# EAGLE library part 2020-03-18-BUCK-N5 (library 2021-07-02 OrangeHat Library)
2020-03-18 Buck Module Output 1: 5.8V3.0A SW Output 2:5.2V 3.0A SW Output 3: 5.0V 1.0A LDO
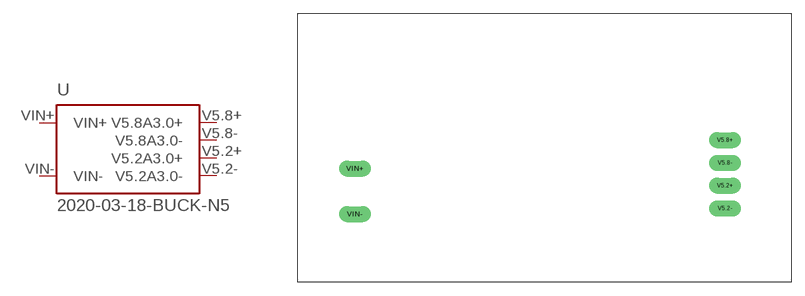
[diagram p14: symbol with the pads of 2020-03-18-BUCK-NHN5; footprint 2020-03-18-BUCK-NHN5]

Designator prefix -

## 2020-03-18-BUCK-N5-NHN5  [2020-03-18-BUCK-NHN5]
V5.2+  V5.2A3.0+  pwr
V5.2-  V5.2A3.0-  pwr
V5.8+  V5.8A3.0+  pwr
V5.8-  V5.8A3.0-  pwr
VIN+  VIN+  pwr
VIN-  VIN-  pwr

## Footprint 2020-03-18-BUCK-NHN5 (pad centres in mm)
Module Remove 5.0V1.0A Line
drill 1.2 long: V5.2+ 47.625,10.795; V5.2- 47.625,8.255; V5.8+ 47.625,15.875; V5.8- 47.625,13.335; VIN+ 6.35,12.7; VIN- 6.35,7.62